# Altium footprint library led.PCBLIB: 114 footprints (part 7 of 8)
Each footprint in its own frame and in the unit in brackets; x right, y up, seen from the top. Pads: shape width x height; smd on the part's side, far side on the other; paste and mask are expansions set on the pad; w line width, h text height; cw(c..) or ccw(c..) is an arc to the next point about the centre after c.
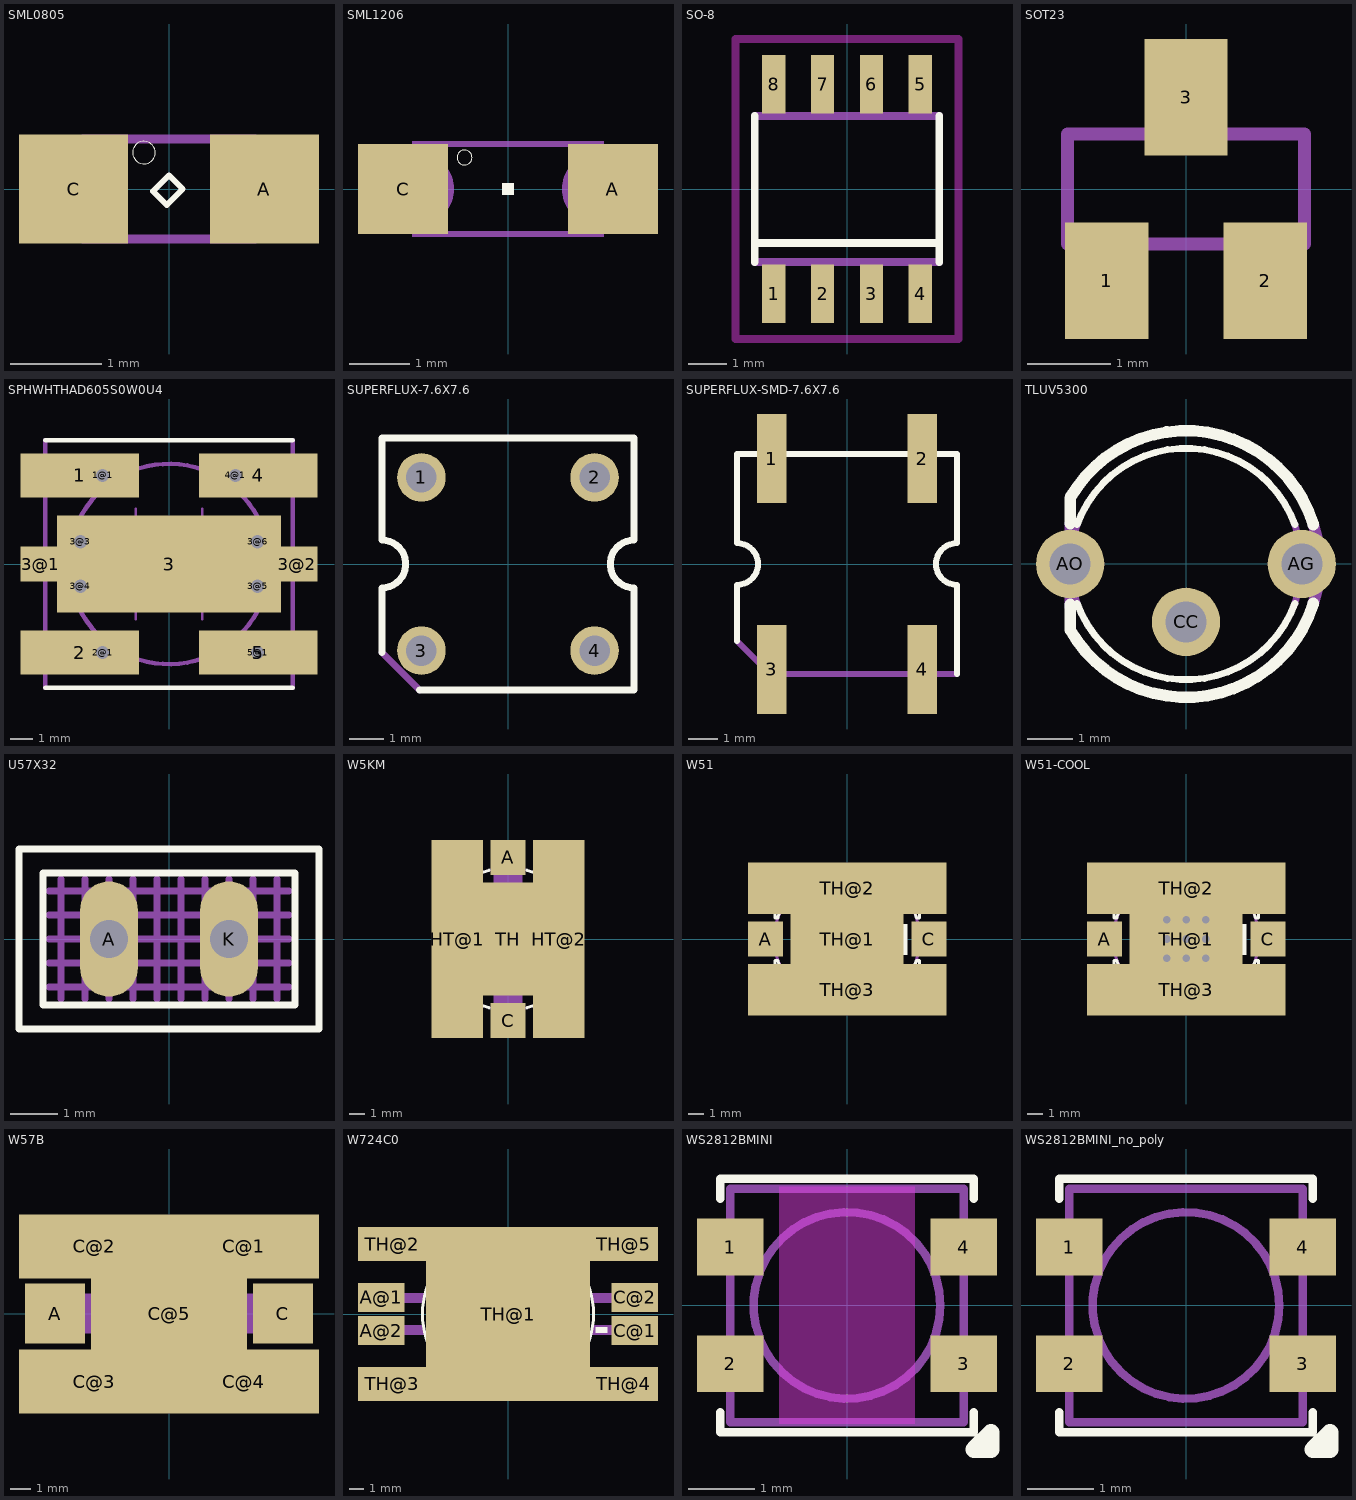
[diagram p6: the footprints below, top view; thin cyan lines are the x and y axes]

## SML0805 [mil]
pads (2):
  rect 47.24x47.24 smd: A(41.34,0) C(-41.34,0)
Top Overlay:
  circle w0: c-10.83,15.75 r4.92
  lines w2.5: -6.89,-0.98 0,5.91 5.91,0 -0.98,-6.89 -6.89,-0.98
Mechanical 4:
  lines w4: -37.4,-21.65 37.4,-21.65 37.4,21.65 -37.4,21.65 -37.4,-21.65

## SML1206 [mil]
pads (2):
  rect 59.06x59.06 smd: A(68.9,0) C(-68.9,0)
Top Overlay:
  circle w0: c-28.54,20.67 r4.92
  rectangle: -3.94,-3.94 3.94,3.94
Mechanical 4:
  region: 46.26,23.62 39.37,23.62 39.37,10.83 46.26,10.83
  region: 62.99,31.5 45.28,31.5 45.28,15.75 62.99,15.75
  region: 62.99,-15.75 45.28,-15.75 45.28,-31.5 62.99,-31.5
  rectangle: -46.26,-23.62 -39.37,-10.83
  rectangle: -62.99,-31.5 -45.28,-15.75
  rectangle: -62.99,15.75 -45.28,31.5
  lines w4: -61.02,-29.53 61.02,-29.53 ; -61.02,29.53 61.02,29.53
  lines w8: -59.06,-19.69 ccw(c-59.06,0) -59.06,19.69 ; 59.06,-19.69 cw(c59.06,0) 59.06,19.69

## SO-8 [mil]
pads (8):
  rect 23.62x59.84 smd: 1(-75,-107.28) 2(-25,-107.28) 3(25,-107.28) 4(75,-107.28) 5(75,107.28) 6(25,107.28) 7(-25,107.28) 8(-75,107.28)
Top Overlay:
  lines w8: -94.49,-74.8 -94.49,-55.12 ; -94.49,74.8 -94.49,-55.12 ; 94.49,-74.8 94.49,-55.12 ; 94.49,74.8 94.49,-55.12 ; -94.49,-55.12 94.49,-55.12
Keep-Out Layer:
  lines w7.87: -114.17,-153.54 114.17,-153.54 114.17,153.54 -114.17,153.54 -114.17,-153.54
Mechanical 4:
  rectangle: -84.65,-122.05 -65.35,-78.74
  rectangle: -34.65,-122.05 -15.35,-78.74
  rectangle: 15.35,-122.05 34.65,-78.74
  rectangle: 65.35,-122.05 84.65,-78.74
  rectangle: 65.35,78.74 84.65,122.05
  rectangle: 15.35,78.74 34.65,122.05
  rectangle: -34.65,78.74 -15.35,122.05
  rectangle: -84.65,78.74 -65.35,122.05
  lines w8: -94.49,-74.8 94.49,-74.8 ; -94.49,74.8 94.49,74.8

## SOT23 [mm]
pads (3):
  rect 1x1.4 smd: 1(-0.95,-1.1) 2(0.95,-1.1) 3(0,1.1)
Mechanical 4:
  rectangle: -1.168,-1.295 -0.711,-0.711
  rectangle: 0.711,-1.295 1.168,-0.711
  rectangle: -0.229,0.711 0.229,1.295
  lines w0.152: -1.422,-0.66 -1.422,0.66 1.422,0.66 1.422,-0.66 -1.422,-0.66

## SPHWHTHAD605S0W0U4 [mm]
pads (15):
  rect 5.35x2 smd paste-2.675 mask-2.675: 1(-4.025,4) 2(-4.025,-4) 4(4.025,4) 5(4.025,-4)
  round 1 hole 0.6: 1@1(-3,4) 2@1(-3,-4) 3@3(-4,1) 3@4(-4,-1) 3@5(4,-1) 3@6(4,1) 4@1(3,4) 5@1(4,-4)
  rect 10.1x4.4 smd paste-5.05: 3(0,0)
  rect 1.8x1.6 smd paste-0.9: 3@1(-5.8,0) 3@2(5.8,0)
Top Overlay:
  lines w0.203: -5.6,-5.6 5.6,-5.6 ; -5.6,5.6 5.6,5.6
Top Paste:
  rectangle: -5.55,3.425 -1.425,4.575
  rectangle: -6.625,3.075 -5.475,4.925
  region: 5.55,4.575 1.425,4.575 1.425,3.425 5.55,3.425
  region: 6.625,4.925 5.475,4.925 5.475,3.075 6.625,3.075
  rectangle: -5.55,-4.575 -1.425,-3.425
  rectangle: -6.625,-4.925 -5.475,-3.075
  region: 5.55,-3.425 1.425,-3.425 1.425,-4.575 5.55,-4.575
  region: 6.625,-3.075 5.475,-3.075 5.475,-4.925 6.625,-4.925
  rectangle: -6.575,-0.675 -4.75,0.675
  rectangle: -4.85,-2 4.875,2
  region: 6.575,0.675 4.75,0.675 4.75,-0.675 6.575,-0.675
Top Solder:
  rectangle: -5.45,3.35 -1.3,4.65
  rectangle: -6.775,2.95 -5.4,5.05
  region: 5.45,4.65 1.3,4.65 1.3,3.35 5.45,3.35
  rectangle: -5.45,-4.65 -1.3,-3.35
  region: 5.45,-3.35 1.3,-3.35 1.3,-4.65 5.45,-4.65
  rectangle: -6.775,-5.05 -5.4,-2.95
  region: 6.775,-2.95 5.4,-2.95 5.4,-5.05 6.775,-5.05
  region: 6.775,5.05 5.4,5.05 5.4,2.95 6.775,2.95
Mechanical 4:
  circle w0.203: c0,0 r4.525
  rectangle: -6.2,3.075 -5.6,4.925
  rectangle: -6.2,-0.675 -5.6,0.675
  rectangle: -6.2,-4.925 -5.6,-3.075
  region: 6.2,-3.075 5.6,-3.075 5.6,-4.925 6.2,-4.925
  region: 6.2,0.675 5.6,0.675 5.6,-0.675 6.2,-0.675
  region: 6.2,4.925 5.6,4.925 5.6,3.075 6.2,3.075
  region: 0,0 0.254,0 0.254,0.254 0,0.254
  region: 0,0 0.254,0 0.254,0.254 0,0.254
  region: 0,0 0.254,0 0.254,0.254 0,0.254
  region: 0,0 0.254,0 0.254,0.254 0,0.254
  region: 0,0 0.254,0 0.254,0.254 0,0.254
  region: 0,0 0.254,0 0.254,0.254 0,0.254
  region: 0,0 0.254,0 0.254,0.254 0,0.254
  region: 0,0 0.254,0 0.254,0.254 0,0.254
  lines w0.1: -2.25,-1 -1.75,-1 ; -2.25,1.5 -1.75,1.5 ; -2,-0.5 -2,-2 -1.5,-2 ; -2,-0.275 -2,-0.25 ; -2,-0.025 -2,0 ; -2,0.225 -2,0.25 ; -2,0.5 -2,1 -2,2 -1.5,2 ; -1.5,-2.5 -1.5,-2 ; -1.5,2.5 -1.5,2 ; -1.25,-1.5 -0.75,-1.5 ; -1.25,1 -0.75,1 ; -1,-0.5 -1,-2 -1.5,-2 ; -1,-0.275 -1,-0.25 ; -1,-0.025 -1,0 ; -1,0.225 -1,0.25 ; -1,0.5 -1,1 -1,2 -1.5,2 ; 0.75,-1 1.25,-1 ; 0.75,1.5 1.25,1.5 ; 1,-0.5 1,-1 1,-2 1.5,-2 ; 1,-0.25 1,-0.225 ; 1,0 1,0.025 ; 1,0.25 1,0.275 ; 1,0.5 1,2 1.5,2 ; 1.5,-2.5 1.5,-2 ; 1.5,2.5 1.5,2 ; 1.75,-1.5 2.25,-1.5 ; 1.75,1 2.25,1 ; 2,-0.5 2,-1 2,-2 1.5,-2 ; 2,-0.25 2,-0.225 ; 2,0 2,0.025 ; 2,0.25 2,0.275 ; 2,0.5 2,2 1.5,2
  lines w0.203: -5.6,-5.6 -5.6,5.6 ; 5.6,-5.6 5.6,5.6

## SUPERFLUX-7.6X7.6 [mil]
pads (4):
  round 56 hole 35.43: 1(-100,100) 2(100,100) 3(-100,-100) 4(100,-100)
Top Overlay:
  lines w8: -145.67,-102.36 -145.67,-27.56 ccw(c-145.67,0) -145.67,27.56 -145.67,145.67 145.67,145.67 145.67,27.56 ccw(c145.67,0) 145.67,-27.56 145.67,-145.67 -102.36,-145.67
Mechanical 4:
  lines w8: -145.67,-102.36 -102.36,-145.67

## SUPERFLUX-SMD-7.6X7.6 [mm]
pads (4):
  rect 1x3 smd: 1(-2.54,3.556) 2(2.54,3.556) 3(-2.54,-3.556) 4(2.54,-3.556)
Top Overlay:
  lines w0.203: -3.7,-2.6 -3.7,-0.7 ccw(c-3.7,0) -3.7,0.7 -3.7,3.7 3.7,3.7 3.7,0.7 ccw(c3.7,0) 3.7,-0.7 3.7,-3.7
Mechanical 4:
  lines w0.203: -3.7,-2.6 -2.6,-3.7 3.7,-3.7

## TLUV5300 [mil]
pads (3):
  round 59.06 hole 35.43: AG(100,0) AO(-100,0) CC(0,-50)
Top Overlay:
  lines w6: -94,-34 ccw(c0,0) 94,-34 ; -94,34 cw(c0,0) 94,34
  lines w10: -100.03,57.02 cw(c0,-0.01) 110,34 ; -100,-35 -100,-57 ccw(c0,-0.01) 109.97,-33.99 ; -100,35 -100,57
Mechanical 4:
  lines w6: -94,-34 cw(c0,0) -94,34 ; 94,-34 ccw(c0,0) 94,34
  lines w10: -100,-37 -100,35 ; 110,-34 ccw(c0,0) 110,34

## U57X32 [mil]
pads (2):
  oval 48x96 hole 32: A(-50,0) K(50,0)
Top Overlay:
  lines w6: -125,-75 -125,75 125,75 125,-75 -125,-75 ; -105,-55 -105,55 105,55 105,-55 -105,-55
Mechanical 4:
  lines w6: -100,-40 100,-40 ; -100,-20 100,-20 ; -100,0 100,0 ; -100,20 100,20 ; -100,40 100,40 ; -90,-50 -90,50 ; -70,-50 -70,50 ; -50,-50 -50,50 ; -30,-50 -30,50 ; -10,-50 -10,50 ; 10,-50 10,50 ; 30,-50 30,50 ; 50,-50 50,50 ; 70,-50 70,50 ; 90,-50 90,50

## W5KM [mm]
pads (5):
  rect 2.3x2.3 smd: A(0,5.35) C(0,-5.35)
  rect 3.35x13 smd paste-6.5 mask-6.5: HT@1(-3.325,0) HT@2(3.325,0)
  rect 3.35x7.4 smd paste-3.7 mask-3.7: TH(0,0)
Top Overlay:
  lines w0.203: -1.25,-4.5 cw(c0,0) -1.25,4.5 ; 1.25,-4.5 ccw(c0,0) 1.25,4.5
Top Paste:
  circle w0: c0,0 r1.803
Top Solder:
  circle w0: c0,0 r2
Mechanical 4:
  circle w0.203: c0,0 r4.675
  rectangle: -0.95,-5.6 0.95,-3.2
  region: 0.95,5.6 -0.95,5.6 -0.95,3.2 0.95,3.2

## W51 [mm]
pads (5):
  rect 2.3x2.3 smd paste-1.15 mask-1.15: A(-5.35,0) C(5.35,0)
  rect 7.4x3.4 smd paste-3.7 mask-3.7: TH@1(0,0)
  rect 13x3.35 smd paste-6.5 mask-6.5: TH@2(0,3.325) TH@3(0,-3.325)
Top Overlay:
  circle w0.203: c0,0 r0.7
  circle w0.203: c0,0 r2.825
  rectangle: 3.632,-1.054 3.962,0.99
  lines w0.203: -4.35,2.025 -4.525,2.025 -4.725,1.65 -4.725,1.375 -4.55,1.375 cw(c0,-0.005) 4.55,1.375 4.725,1.375 4.725,1.675 4.525,2.025 4.35,2.025 ; -4.325,-2.05 -4.525,-2.05 -4.725,-1.675 -4.725,-1.4 -4.55,-1.4 ccw(c0,0.015) 4.55,-1.4 4.725,-1.4 4.725,-1.675 4.5,-2.05 4.325,-2.05 ; -1.75,-0.425 cw(c0.025,0.018) -0.975,1.55 ; -1.35,-1.225 ccw(c0.006,0.012) 0.6,-1.725 ; -0.125,1.825 cw(c-0.027,-0.012) 1.725,0.55
Top Paste:
  circle w0: c0,0 r1.775
  rectangle: -6.45,-1.1 -4.25,1.1
  rectangle: 4.25,-1.1 6.45,1.1
Top Solder:
  circle w0: c0,0 r2
  rectangle: -6.725,-1.35 -4,1.375
  rectangle: 3.975,-1.375 6.7,1.35
Mechanical 4:
  circle w0.203: c0,0 r4.75
  rectangle: -5.575,-1 -4.675,1
  region: 5.575,1 4.65,1 4.65,-1 5.575,-1

## W51-COOL [mm]
pads (14):
  rect 2.3x2.3 smd paste-1.15 mask-1.15: A(-5.35,0) C(5.35,0)
  rect 7.4x3.4 smd paste-3.7 mask-3.7: TH@1(0,0)
  rect 13x3.35 smd paste-6.5 mask-6.5: TH@2(0,3.325) TH@3(0,-3.325)
  rect 0.9x0.9 hole 0.5: TH@4(-1.27,1.27) TH@5(0,1.27) TH@6(1.27,1.27) TH@7(-1.27,0) TH@8(0,0) TH@9(1.27,0) TH@10(-1.27,-1.27) TH@11(0,-1.27) TH@12(1.27,-1.27)
Top Overlay:
  circle w0.203: c0,0 r0.7
  circle w0.203: c0,0 r2.825
  rectangle: 3.632,-1.054 3.962,0.99
  lines w0.203: -4.35,2.025 -4.525,2.025 -4.725,1.65 -4.725,1.375 -4.55,1.375 cw(c0,-0.005) 4.55,1.375 4.725,1.375 4.725,1.675 4.525,2.025 4.35,2.025 ; -4.325,-2.05 -4.525,-2.05 -4.725,-1.675 -4.725,-1.4 -4.55,-1.4 ccw(c0,0.015) 4.55,-1.4 4.725,-1.4 4.725,-1.675 4.5,-2.05 4.325,-2.05 ; -1.75,-0.425 cw(c0.025,0.018) -0.975,1.55 ; -1.35,-1.225 ccw(c0.006,0.012) 0.6,-1.725 ; -0.125,1.825 cw(c-0.027,-0.012) 1.725,0.55
Top Paste:
  circle w0: c0,0 r1.775
  rectangle: -6.45,-1.1 -4.25,1.1
  rectangle: 4.25,-1.1 6.45,1.1
Top Solder:
  circle w0: c0,0 r2.502
  rectangle: -6.725,-1.35 -4,1.375
  rectangle: 3.975,-1.375 6.7,1.35
Mechanical 4:
  circle w0.203: c0,0 r4.75
  rectangle: -5.575,-1 -4.675,1
  region: 5.575,1 4.65,1 4.65,-1 5.575,-1

## W57B [mm]
pads (7):
  rect 3x3 smd mask-1.5: A(-5.7,0) C(5.7,0)
  rect 7.5x3.2 smd paste-3.75 mask-3.75: C@1(3.75,3.375) C@2(-3.75,3.375) C@3(-3.75,-3.4) C@4(3.75,-3.4)
  rect 7.8x4 smd paste-3.9 mask-3.9: C@5(0,0)
Top Overlay:
  lines w0.203: -3.475,-1.8 ccw(c-2.275,-1.8) -2.275,-3 2.3,-3 ccw(c2.3,-1.8) 3.5,-1.8 3.5,1.8 ccw(c2.3,1.8) 2.3,3 -2.275,3 ccw(c-2.275,1.8) -3.475,1.8 -3.475,-1.8
Top Paste:
  circle w0: c0,0 r1.775
Top Solder:
  circle w0: c0,0 r2
  rectangle: -7.375,-1.675 -4.025,1.675
  rectangle: 4.025,-1.675 7.375,1.675
Mechanical 4:
  circle w0.102: c0,0 r0.895
  circle w0.102: c1.324,1.36 r0.323
  rectangle: -0.25,-0.25 0.25,0.25
  rectangle: -5.575,-1 -3.55,1
  region: 5.575,1 3.55,1 3.55,-1 5.575,-1
  lines w0.102: -1.127,-0.716 ccw(c0.013,0) -1.127,0.716 ; -1.056,-0.447 -1.628,-0.447 cw(c-1.628,0) -2.075,0 cw(c-1.628,0) -1.628,0.447 -1.038,0.447 ; -2.344,0 cw(c-1.664,0) -1.664,0.68 -1.181,0.68 -1.002,0.411 ccw(c-0.142,0.009) -1.002,-0.394 -1.181,-0.698 -1.646,-0.698 cw(c-1.646,0) -2.344,0

## W724C0 [mm]
pads (9):
  rect 3.2x2 smd: A@1(-8.75,1.15) A@2(-8.75,-1.15) C@1(8.75,-1.15) C@2(8.75,1.15)
  rect 11.3x12 smd paste-6 mask-6: TH@1(0,0)
  rect 4.7x2.35 smd paste-2.35 mask-2.35: TH@2(-8,4.825) TH@3(-8,-4.825) TH@4(8,-4.825) TH@5(8,4.825)
Top Overlay:
  circle w0.203: c0,0 r5.9
  rectangle: 6.025,-1.3 6.85,-0.9
Top Paste:
  region: -0.375,0 -2.925,2.55 -3.077,2.375 -3.337,1.99 -3.549,1.578 -3.711,1.143 -3.82,0.692 -3.875,0.232 -3.875,-0.232 -3.82,-0.692 -3.711,-1.143 -3.549,-1.578 -3.337,-1.99 -3.077,-2.375 -2.925,-2.55
  region: 0,-0.375 -2.55,-2.925 -2.375,-3.077 -1.99,-3.337 -1.578,-3.549 -1.143,-3.711 -0.692,-3.82 -0.232,-3.875 0.232,-3.875 0.692,-3.82 1.143,-3.711 1.578,-3.549 1.99,-3.337 2.375,-3.077 2.55,-2.925
  region: 0.375,0 2.925,-2.55 3.077,-2.375 3.337,-1.99 3.549,-1.578 3.711,-1.143 3.82,-0.692 3.875,-0.232 3.875,0.232 3.82,0.692 3.711,1.143 3.549,1.578 3.337,1.99 3.077,2.375 2.925,2.55
  region: 0,0.375 2.55,2.925 2.375,3.077 1.99,3.337 1.578,3.549 1.143,3.711 0.692,3.82 0.232,3.875 -0.232,3.875 -0.692,3.82 -1.143,3.711 -1.578,3.549 -1.99,3.337 -2.375,3.077 -2.55,2.925
Top Solder:
  circle w0: c0,0 r4
Mechanical 4:
  circle w0: c0,0 r4.5
  region: 7.625,-0.75 5.8,-0.75 5.8,-1.45 7.625,-1.45
  region: 7.625,1.45 5.8,1.45 5.8,0.75 7.625,0.75
  rectangle: -9.25,0.375 -7.625,1.85
  rectangle: -9.25,-1.85 -7.625,-0.35
  region: 9.25,-0.375 7.625,-0.375 7.625,-1.85 9.25,-1.85
  region: 9.25,1.85 7.625,1.85 7.625,0.35 9.25,0.35
  rectangle: -7.625,0.75 -5.8,1.45
  rectangle: -7.625,-1.45 -5.8,-0.75

## WS2812BMINI [mm]
pads (4):
  rect 1x0.85 smd: 1(-1.75,0.875) 2(-1.75,-0.875) 3(1.75,-0.875) 4(1.75,0.875)
Top Layer keep-out:
  region: -1.016,1.778 1.016,1.778 1.016,-1.778 -1.016,-1.778
Top Overlay:
  lines w0.127: -1.9,-1.6 -1.9,-1.9 1.9,-1.9 1.9,-1.6 ; -1.9,1.6 -1.9,1.9 1.9,1.9 1.9,1.6
  lines w0.254: 1.905,-2.159 2.159,-2.159 2.159,-1.905 1.905,-2.159
Mechanical 4:
  circle w0.127: c0,0 r1.4
  lines w0.127: -1.75,-1.75 1.75,-1.75 1.75,1.75 -1.75,1.75 -1.75,-1.75
3D body "SMD3535 RGB.stp": height 1, standoff 0, extent -1.85,-1.75 1.85,1.75

## WS2812BMINI_no_poly [mm]
pads (4):
  rect 1x0.85 smd: 1(-1.75,0.875) 2(-1.75,-0.875) 3(1.75,-0.875) 4(1.75,0.875)
Top Overlay:
  lines w0.127: -1.9,-1.6 -1.9,-1.9 1.9,-1.9 1.9,-1.6 ; -1.9,1.6 -1.9,1.9 1.9,1.9 1.9,1.6
  lines w0.254: 1.905,-2.159 2.159,-2.159 2.159,-1.905 1.905,-2.159
Mechanical 4:
  circle w0.127: c0,0 r1.4
  lines w0.127: -1.75,-1.75 1.75,-1.75 1.75,1.75 -1.75,1.75 -1.75,-1.75
3D body "SMD3535 RGB.stp": height 1, standoff 0, extent -1.85,-1.75 1.85,1.75